# Altium footprint library INF-PG-TO-263-3-2_A_L.PcbLib: 1 footprints
Each footprint in its own frame and in the unit in brackets; x right, y up, seen from the top. Pads: shape width x height; smd on the part's side, far side on the other; paste and mask are expansions set on the pad; w line width, h text height; cw(c..) or ccw(c..) is an arc to the next point about the centre after c.
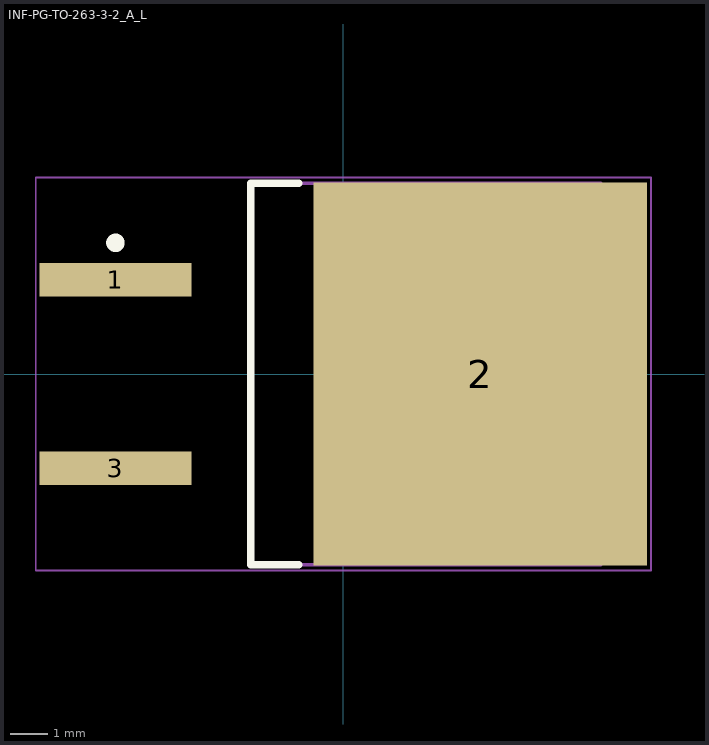
[diagram p0: the footprint, top view; thin cyan lines are the x and y axes]

## INF-PG-TO-263-3-2_A_L [mm] "DPAK, 3-Leads, Body 10.06x8.98mm, Pitch 2.54mm, IPC High Density"
height 4.57
pads (3):
  rect 4.1x0.9 smd: 1(-6.15,2.54) 3(-6.15,-2.54)
  rect 9x10.35 smd: 2(3.7,0)
Top Overlay:
  circle w0.25: c-6.15,3.54 r0.125
  lines w0.2: -1.2,-5.15 -2.5,-5.15 -2.5,5.15 -1.2,5.15
Mechanical 13:
  lines w0.1: -2.5,-5.15 -2.5,5.15 6.95,5.15 6.95,-5.15 -2.5,-5.15
Mechanical 15:
  lines w0.05: -8.3,-5.3 -8.3,5.3 8.3,5.3 8.3,-5.3 -8.3,-5.3
  lines w0.1: -0.5,0 0.5,0 ; 0,-0.5 0,0.5
3D body: height 4.57, standoff 0, extent -2.5,-5.15 6.95,5.15